# EAGLE library part MTA11-156 (library con-amp)
AMP connector
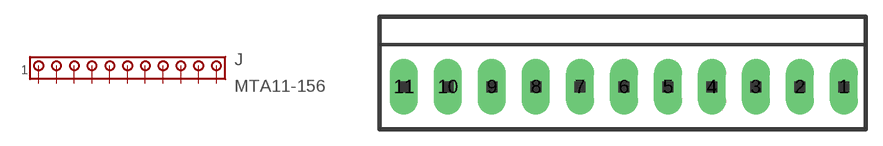
[diagram p126: symbol with the pads of 1X11MTA; footprint 1X11MTA]

Designator prefix J

## MTA11-156  [1X11MTA]
1  1  pas
2  2  pas
3  3  pas
4  4  pas
5  5  pas
6  6  pas
7  7  pas
8  8  pas
9  9  pas
10  10  pas
11  11  pas

## Footprint 1X11MTA (pad centres in mm)
AMP MTA connector
drill 1.676 long: 1 19.812,0; 2 15.85,0; 3 11.887,0; 4 7.925,0; 5 3.962,0; 6 0,0; 7 -3.962,0; 8 -7.925,0; 9 -11.887,0; 10 -15.85,0; 11 -19.812,0